# Altium footprint library Connectors.PcbLib: 77 footprints (part 3 of 5)
Each footprint in its own frame and in the unit in brackets; x right, y up, seen from the top. Pads: shape width x height; smd on the part's side, far side on the other; paste and mask are expansions set on the pad; w line width, h text height; cw(c..) or ccw(c..) is an arc to the next point about the centre after c.
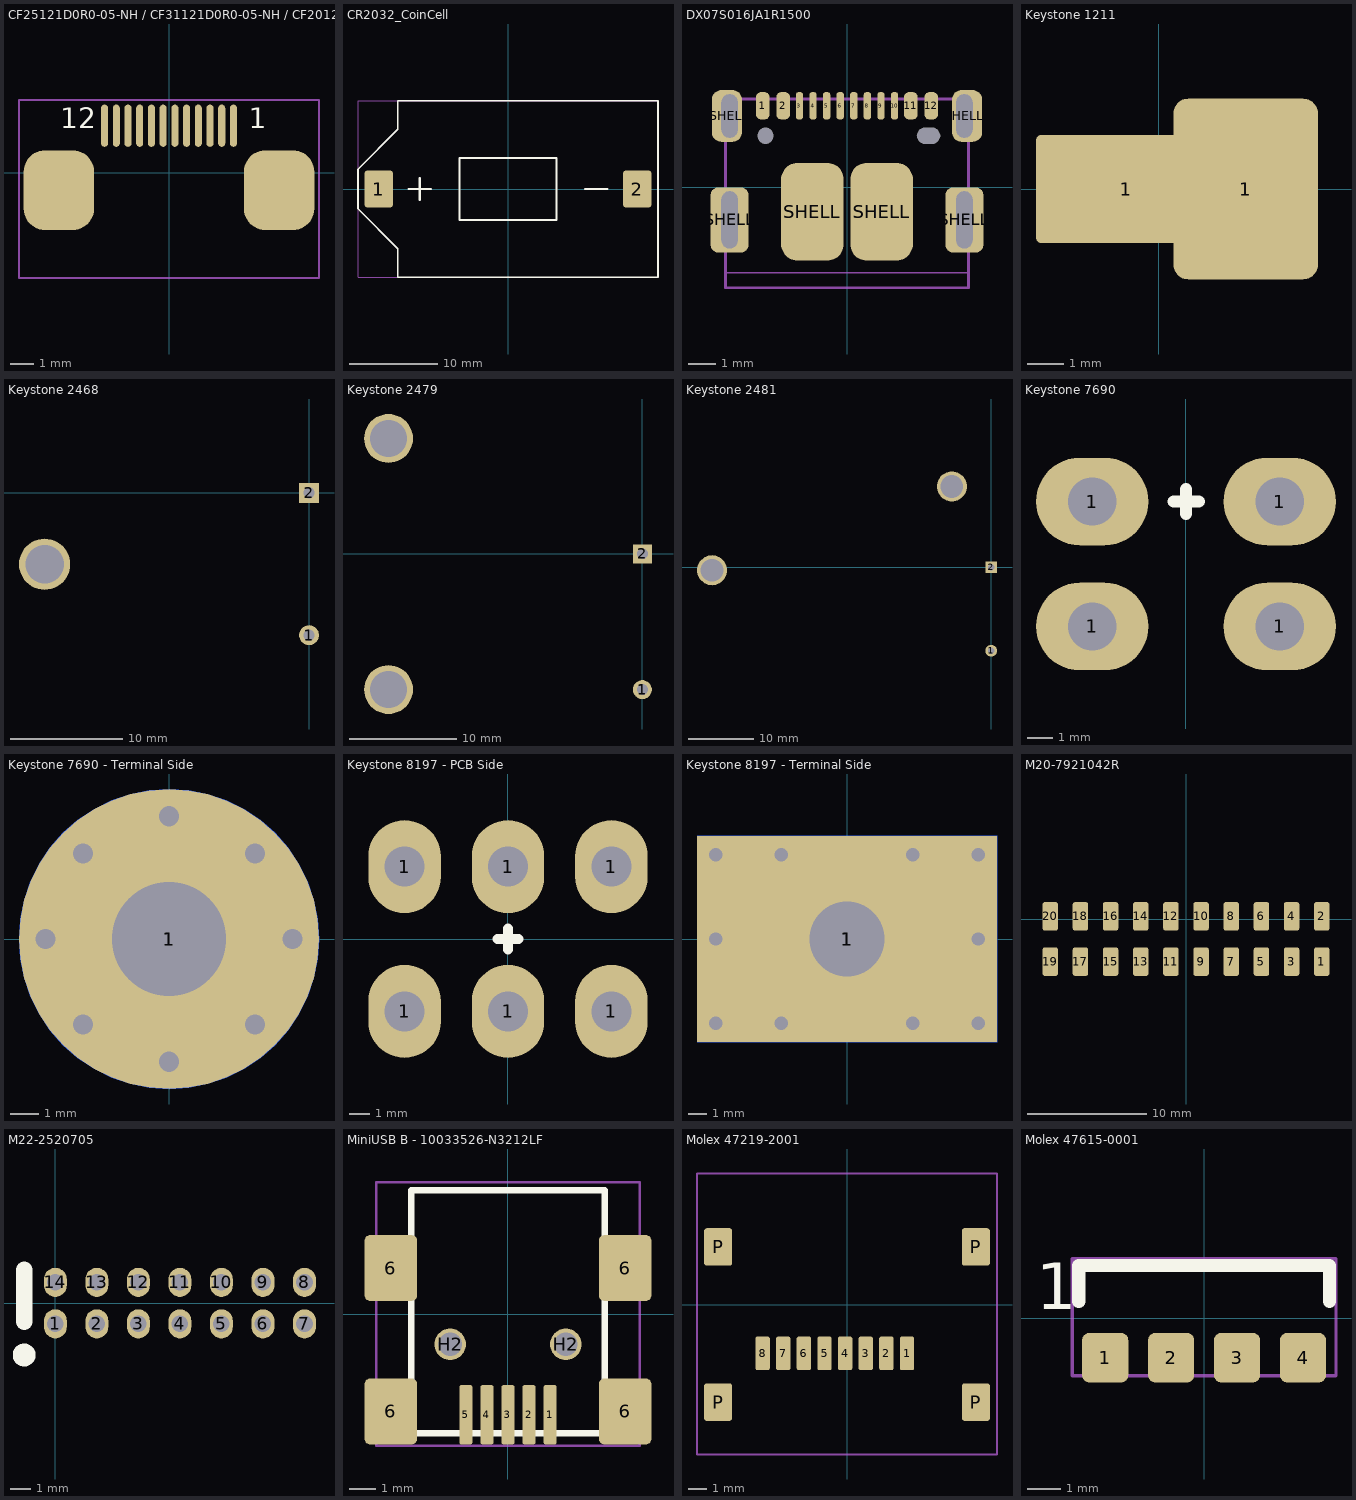
[diagram p2: the footprints below, top view; thin cyan lines are the x and y axes]

## CF25121D0R0-05-NH / CF31121D0R0-05-NH / CF20121D0R0-NH [mm]
pads (14):
  oval 0.3x1.8 smd paste-99 mask+0.048: 1(2.75,2) 2(2.25,2) 3(1.75,2) 4(1.25,2) 5(0.75,2) 6(0.25,2) 7(-0.25,2) 8(-0.75,2) 9(-1.25,2) 10(-1.75,2) 11(-2.25,2) 12(-2.75,2)
  rrect60% 3x3.4 smd paste-99 mask+0.048: ""(-4.7,-0.75) ""(4.7,-0.75)
Top Overlay:
  text "1" at 3.401,1.6 h1.5
  text "12" at -4.649,1.6 h1.5
Top Paste:
  lines w0.27: -2.75,1.65 -2.75,2.75 ; -2.25,1.25 -2.25,2.35 ; -1.75,1.65 -1.75,2.75 ; -1.25,1.25 -1.25,2.35 ; -0.75,1.65 -0.75,2.75 ; -0.25,1.25 -0.25,2.35 ; 0.25,1.65 0.25,2.75 ; 0.75,1.25 0.75,2.35 ; 1.25,1.65 1.25,2.75 ; 1.75,1.25 1.75,2.35 ; 2.25,1.65 2.25,2.75 ; 2.75,1.25 2.75,2.35
  lines w1: -5.4,-1.4 -4,-1.4 ; -5.4,-0.1 -4,-0.1 ; 4,-1.4 5.4,-1.4 ; 4,-0.1 5.4,-0.1
Assembly:
  lines w0.1: -6.4,-4.5 -6.4,3.1 6.4,3.1 6.4,-4.5 -6.4,-4.5
  text ".Designator" at -2.4,-0.2 h1.1
3D body "CF2012xD0x0-NH.STEP": height 2.08, standoff 0, extent -5.745,-3.25 5.755,2.15
3D body "CF3112xD0x0-05-NH.STEP": height 1.96, standoff 0, extent -5.145,-3.576 5.155,2.194
3D body "CF25121D0R0-05-NH.STEP": height 2.24, standoff -0.01, extent -5.051,-4.398 5.049,2.102

## CR2032_CoinCell [mm]
pads (2):
  rrect20% 3.2x4.2 smd paste-0.04: 1(-14.65,0) 2(14.65,0)
Top Overlay:
  lines w0.2: -17,-2.25 -17,2.25 -12.5,6.75 -12.5,10 17,10 17,-10 -12.5,-10 -12.5,-8.937 -12.5,-6.75 -17,-2.25
  lines w0.254: -11.25,0 -8.75,0 ; -10,-1.25 -10,1.25 ; 8.75,0 11.25,0 ; -5.5,-3.5 -5.5,3.5 5.5,3.5 5.5,-3.5 -5.5,-3.5
Assembly:
  lines w0.1: -17,-10 17,-10 17,10 -17,10 -17,-10
  text ".Designator" at -2.1,-0.3 h1.1
3D body "BU2032SM-BT-GTR.STEP": height 5.2, standoff 0, extent -15.98,-8.025 15.88,7.975
3D body: height 3.2, standoff 0, extent -9.85,-9.925 10.071,10.036

## DX07S016JA1R1500 [mm] "USB-C (USB TYPE-C) USB 2.0 Receptacle Connector 24 (16+8 Dummy) Position Surface Mount, Right Angle; Through Hole"
pads (20):
  rrect70% 0.5x1 smd paste-0.04 mask+0.05: 1(-3.1,3) 2(-2.35,3) 11(2.35,3) 12(3.1,3)
  rrect70% 0.27x1 smd paste-0.02 mask+0.05: 3(-1.75,3) 4(-1.25,3) 5(-0.75,3) 6(-0.25,3) 7(0.25,3) 8(0.75,3) 9(1.25,3) 10(1.75,3)
  rrect40% 1.4x2.4 hole 0.6 slot 2.1 at 90 deg paste-99 mask+0.1: SHELL(-4.32,-1.2) SHELL(4.32,-1.2)
  rrect60% 1.1x1.9 hole 0.6 slot 1.6 at 90 deg copper offset -0.1,0 paste-99 mask+0.1: SHELL(-4.32,2.625)
  rrect52% 2.3x3.6 smd paste-99 mask+0.05: SHELL(-1.275,-0.9) SHELL(1.275,-0.9)
  rrect60% 1.1x1.9 hole 0.6 slot 1.6 at 90 deg copper offset 0.1,0 paste-99 mask+0.1: SHELL(4.32,2.625)
  round 0 hole 0.6: ""(-3,1.9)
  round 0 hole 0.6 slot 0.85 at 0 deg: ""(3,1.9)
Top Paste:
  lines w0.5: -4.925,1.925 -4.925,3.325 ; 4.925,1.925 4.925,3.325
  lines w0.6: -4.975,-2.1 -4.975,-0.3 ; -3.665,-2.1 -3.665,-0.3 ; 3.665,-2.1 3.665,-0.3 ; 4.975,-2.1 4.975,-0.3
  lines w1.05: -1.8,-2.1 -0.7,-2.1 ; -1.8,-0.9 -0.7,-0.9 ; -1.8,0.3 -0.7,0.3 ; 0.7,-2.1 1.8,-2.1 ; 0.7,-0.9 1.8,-0.9 ; 0.7,0.3 1.8,0.3
Assembly:
  lines w0.05: -4.47,-3.15 4.47,-3.15
  lines w0.1: -4.47,-3.7 4.47,-3.7 4.47,3.25 -4.47,3.25 -4.47,-3.7
  text ".Designator" at -3.5,-0.7 h1.1
3D body "K3D-DX07S016JA1-V1_JAE_Proprietary.STEP": height 3.18, standoff -0.88, extent -4.47,-3.65 4.47,3.25

## Keystone 1211 [mm] "0.110\" QC, laying flat"
pads (2):
  rrect10% 5x3 smd paste-0.5: 1(-0.9,0)
  rrect20% 4x5 smd paste-0.5: 1(2.4,0)
3D body "keystone-PN1211.STEP": height 0.81, standoff 0, extent -2.783,-1.962 10.983,2

## Keystone 2468 [mil]
pads (3):
  round 70 hole 40 paste-3897.64: 1(0,-500)
  rect 70x70 hole 40 paste-3897.64: 2(0,0)
  round 180 hole 136: ""(-929.13,-250.98)
3D body "keystone-PN2468.STEP": height 540.83, standoff -479.6, extent -1973.01,-732.98 112.99,235.02

## Keystone 2479 [mil]
pads (4):
  round 70 hole 40 paste-3897.64: 1(0,-500)
  rect 70x70 hole 40 paste-3897.64: 2(0,0)
  round 180 hole 136: ""(-935,-500) ""(-935,425)
3D body "keystone-PN2479.STEP": height 524.34, standoff -496.1, extent -1969.97,-775 116,701

## Keystone 2481 [mil]
pads (4):
  round 70 hole 40 paste-3897.64: 1(0,-500)
  rect 70x70 hole 40 paste-3897.64: 2(0,0)
  round 180 hole 136: ""(-1672.24,-17.72) ""(-235.24,484.25)
3D body "keystone-PN2481.STEP": height 529.2, standoff -491.3, extent -2008.58,-739.24 97.42,1240.76

## Keystone 7690 [mm] "15A Right Angle Screw Terminal"
pads (4):
  oval 4.5x3.5 hole 1.93: 1(-3.745,-9.982) 1(-3.745,-4.982) 1(3.755,-9.982) 1(3.755,-4.982)
Top Overlay:
  lines w0.5: -0.495,-4.982 0.505,-4.982 ; 0.005,-5.482 0.005,-4.482
3D body "keystone-PN7690_NoScrew.STEP": height 7.8, standoff -5.21, extent -5.197,-11.566 5.205,0.002

## Keystone 7690 - Terminal Side [mm] "15A Screw Terminal"
pads (3):
  round 10 hole 4: 1(0,0)
  round 10.5 smd paste-99 mask+0: 1(0,0)
  round 10.5 smd far side paste-99 mask+0: 1(0,0)
via 0,4.3 diameter 1.27 hole 0.711
via 4.323,0 diameter 1.27 hole 0.711
via -4.323,0 diameter 1.27 hole 0.711
via -3.008,2.992 diameter 1.27 hole 0.711
via 3.008,2.992 diameter 1.27 hole 0.711
via 3.008,-2.992 diameter 1.27 hole 0.711
via -3.008,-2.992 diameter 1.27 hole 0.711
via 0,-4.3 diameter 1.27 hole 0.711

## Keystone 8197 - PCB Side [mm] "30A Screw Terminal"
pads (6):
  oval 3.5x4.5 hole 1.93 paste-99: 1(-5,-3.5) 1(-5,3.5) 1(0,-3.5) 1(0,3.5) 1(5,-3.5) 1(5,3.5)
Top Overlay:
  lines w0.5: -0.5,0 0.5,0 ; 0,-0.5 0,0.5
3D body "keystone-PN8197_PCBScrew.STEP": height 10.06, standoff -5.31, extent -6.455,-4.484 6.422,4.533

## Keystone 8197 - Terminal Side [mm] "30A Screw Terminal"
pads (3):
  rect 16x11 smd paste-99: 1(0,0)
  rect 16x11 smd far side paste-99: 1(0,0)
  round 11 hole 4 paste-99: 1(0,0)
via 7,0 diameter 1.27 hole 0.711
via -7,0 diameter 1.27 hole 0.711
via -3.5,4.5 diameter 1.27 hole 0.711
via 3.5,4.5 diameter 1.27 hole 0.711
via 3.5,-4.5 diameter 1.27 hole 0.711
via -3.5,-4.5 diameter 1.27 hole 0.711
via -7,-4.5 diameter 1.27 hole 0.711
via 7,-4.5 diameter 1.27 hole 0.711
via 7,4.5 diameter 1.27 hole 0.711
via -7,4.5 diameter 1.27 hole 0.711
Top Overlay:
  lines w0.5: -0.5,0 0.5,0 ; 0,-0.5 0,0.5

## M20-7921042R [mm] "20 Position Receptacle Connector 0.100\" (2.54mm) Surface Mount, Right Angle Gold"
pads (20):
  rrect30% 1.3x2.4 smd paste-0.04 mask+0.092: 1(11.43,-3.556) 2(11.43,0.254) 3(8.89,-3.556) 4(8.89,0.254) 5(6.35,-3.556) 6(6.35,0.254) 7(3.81,-3.556) 8(3.81,0.254) 9(1.27,-3.556) 10(1.27,0.254) 11(-1.27,-3.556) 12(-1.27,0.254) 13(-3.81,-3.556) 14(-3.81,0.254) 15(-6.35,-3.556) 16(-6.35,0.254) 17(-8.89,-3.556) 18(-8.89,0.254) 19(-11.43,-3.556) 20(-11.43,0.254)
3D body "m20-7921042_asm.stp": height 5, standoff 0, extent -12.686,-4.15 12.714,11.25

## M22-2520705 [mm] "14-pin male header, 2mm pitch"
pads (14):
  oval 1.1x1.4 hole 0.8 paste-99: 1(0,-1) 2(2,-1) 3(4,-1) 4(6,-1) 5(8,-1) 6(10,-1) 7(12,-1) 8(12,1) 9(10,1) 10(8,1) 11(6,1) 12(4,1) 13(2,1) 14(0,1)
Top Overlay:
  circle w0.6: c-1.5,-2.5 r0.25
  lines w0.8: -1.5,-0.89 -1.5,1.6
3D body "m22-2520705_asm.stp": height 5, standoff -2.3, extent -1,-2 13,2

## MiniUSB B - 10033526-N3212LF [mm]
pads (11):
  rrect30% 0.5x2.25 smd paste-0.04 mask+0.092: 1(1.6,-3.828) 2(0.8,-3.828) 3(0,-3.828) 4(-0.8,-3.828) 5(-1.6,-3.828)
  rrect20% 2x2.5 smd paste-0.05: 6(-4.45,-3.703) 6(-4.45,1.747) 6(4.45,-3.703) 6(4.45,1.747)
  round 1.2 hole 0.9: H2(-2.2,-1.153) H2(2.2,-1.153)
Top Overlay:
  lines w0.254: -3.675,-4.528 -3.675,4.697 3.675,4.697 3.675,-4.528 -3.675,-4.528
Assembly:
  lines w0.1: -5,-5 5,-5 5,5 -5,5 -5,-5
  text ".Designator" at -2.4,-0.2 h1.1
3D body "i10033526_CLEAN.STEP": height 4.04, standoff -0.96, extent -4.95,-4.703 4.95,4.697

## Molex 47219-2001 [mm] "Hinge-style MicroSD card holder"
height 1.9
pads (12):
  rrect30% 0.77x1.8 smd paste-0.025: 1(3.2,-2.6) 2(2.1,-2.6) 3(1,-2.6) 4(-0.1,-2.6) 5(-1.2,-2.6) 6(-2.3,-2.6) 7(-3.4,-2.6) 8(-4.5,-2.6)
  rrect20% 1.5x2 smd paste-0.025: P(-6.875,-5.2) P(-6.875,3.075) P(6.875,-5.2) P(6.875,3.075)
Assembly:
  lines w0.1: -8,-8 -8,7 8,7 8,-8 -8,-8
  text ".Designator" at -2.4,-0.3 h1.1
3D body "472192001.stp": height 1.91, standoff 0.02, extent -7.3,-7.75 7.3,6.75
3D body "Micro SD Card.STEP": height 1.7, standoff 0.7, extent -5.506,-8.3 5.506,6.7

## Molex 47615-0001 [mm] "4 Position Spring Battery Contact Connector Surface Mount, Right Angle"
pads (4):
  rrect30% 1.4x1.5 smd paste-0.05 mask+0.07: 1(-3,-1.2) 2(-1,-1.2) 3(1,-1.2) 4(3,-1.2)
Top Overlay:
  lines w0.4: -3.8,0.5 -3.8,1.6 3.8,1.6 3.8,0.5
  text "1" at -5.099,-0.2 h2.4
Assembly:
  lines w0.1: -4,-1.75 -4,1.8 4,1.8 4,-1.75 -4,-1.75
  text ".Designator" at -2.4,0.2 h1.1
3D body "Molex - 476150001.stp": height 3.9, standoff 0, extent -4,-3.1 4,1.8